# Altium footprint library FT-M6678DSK_28nm_0920.PcbLib: 78 footprints (part 5 of 6)
Each footprint in its own frame and in the unit in brackets; x right, y up, seen from the top. Pads: shape width x height; smd on the part's side, far side on the other; paste and mask are expansions set on the pad; w line width, h text height; cw(c..) or ccw(c..) is an arc to the next point about the centre after c.
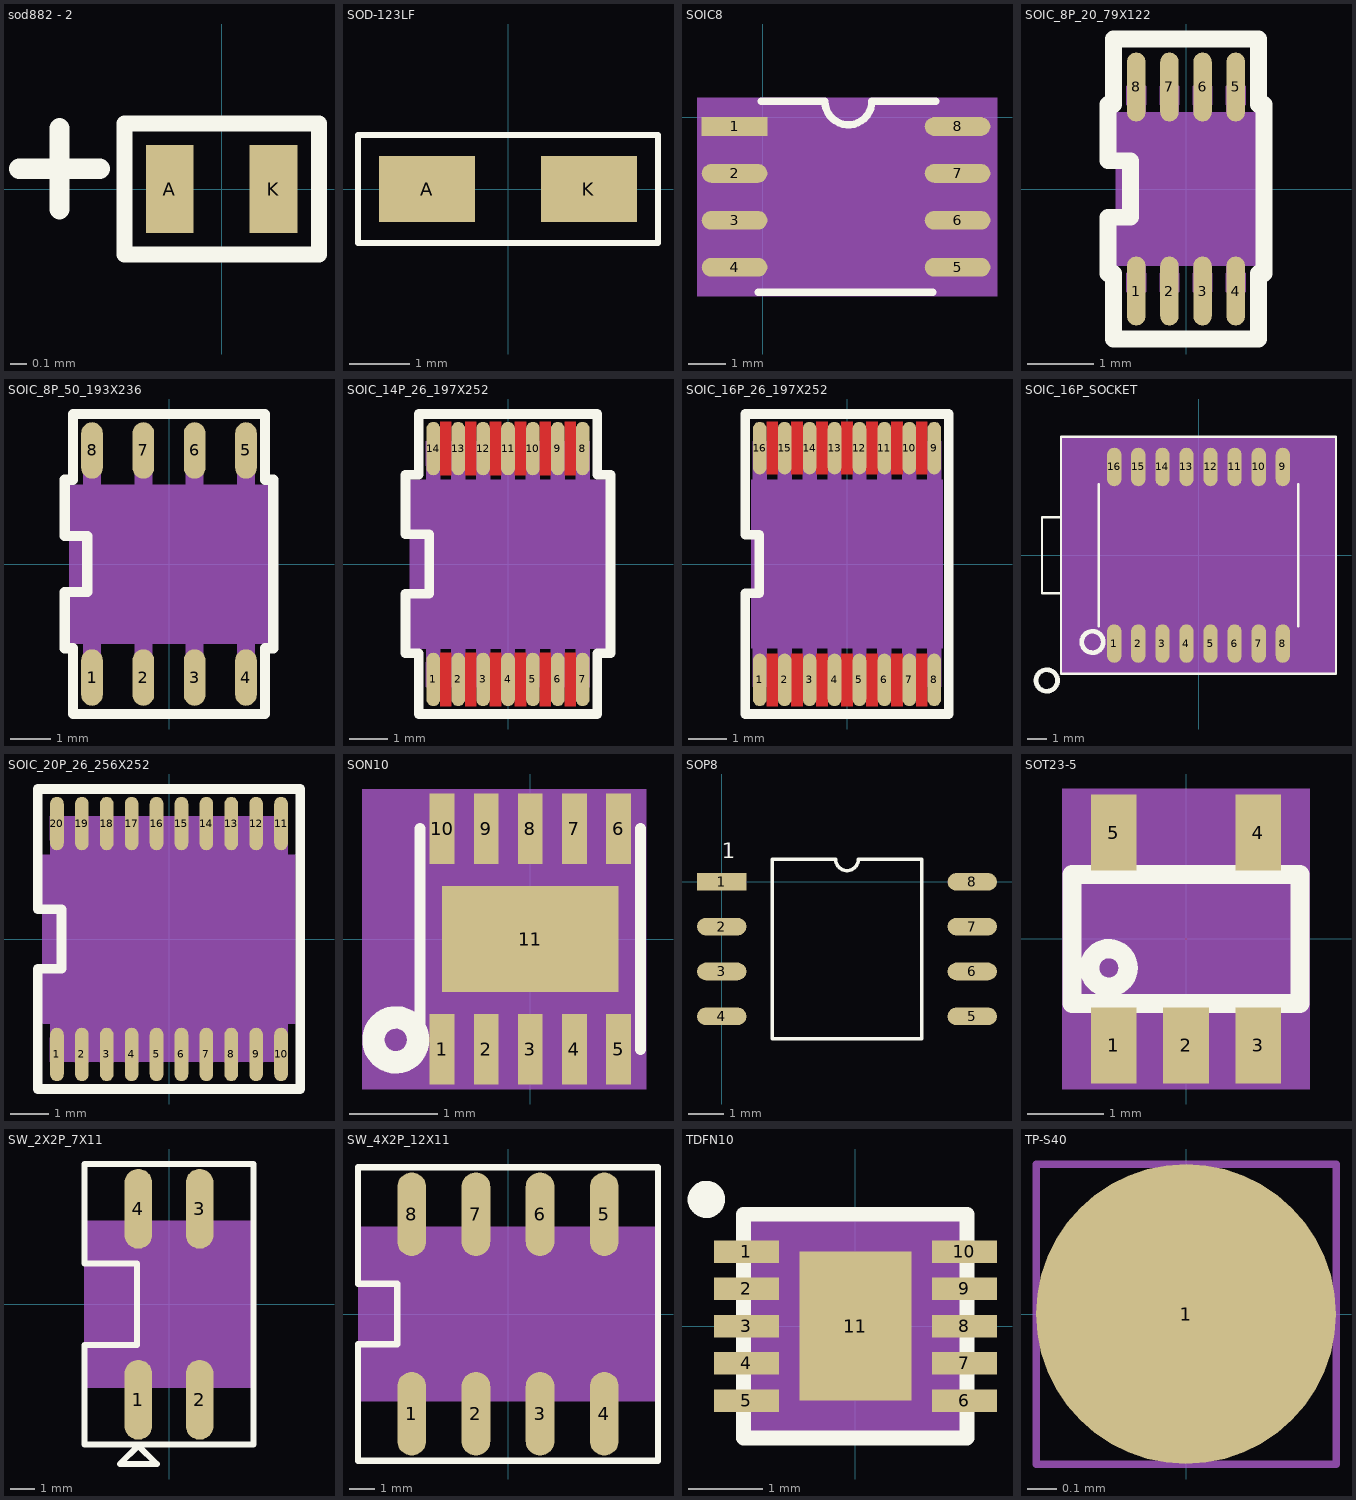
[diagram p4: the footprints below, top view; thin cyan lines are the x and y axes]

## sod882 - 2 [mm]
pads (2):
  rect 0.3x0.55 smd: A(-0.325,0) K(0.325,0)
Top Overlay:
  lines w0.1: -0.61,-0.41 0.61,-0.41 0.61,0.41 -0.61,0.41 -0.61,0 -0.61,-0.41
  lines w0.127: -1.27,0.127 -0.762,0.127 ; -1.016,-0.127 -1.016,0.381

## SOD-123LF [mm]
pads (2):
  rect 1.6x1.1 smd: A(-1.35,0) K(1.35,0)
Top Overlay:
  lines w0.1: -2.5,-0.9 -2.5,0 -2.5,0.9 2.5,0.9 2.5,-0.9 -2.5,-0.9

## SOIC8 [mil] "SOIC8"
pads (8):
  rect 70x20 smd: 1(-30,-10)
  oval 70x20 smd: 2(-30,-60) 3(-30,-110) 4(-30,-160) 5(207.6,-160) 6(207.6,-110) 7(207.6,-60) 8(207.6,-10)
Top Overlay:
  lines w7.87: -4.56,-186.73 181.26,-186.73 ; -1.61,16.81 66.3,16.81 ccw(c91.3,16.81) 116.3,16.81 184.22,16.81
Mechanical 11:
  text "5" at 212.32,-160 h11.81
  text "8" at 212.32,-10 h11.81
  text "7" at 212.32,-60 h11.81
  text "2" at -25.28,-60 h11.81
  text "1" at -25.28,-10 h11.81
  text "6" at 212.32,-110 h11.81
  text "4" at -25.28,-160 h11.81
  text "3" at -25.28,-110 h11.81
Mechanical 15:
  region: -70,-190.67 249.61,-190.67 249.61,20.75 -70,20.75
3D body: height 150, standoff 0, extent -70,-190.67 249.61,20

## SOIC_8P_20_79X122 [mil] "SOIC_8P_20_79X122"
pads (8):
  oval 11x41 smd: 1(-29.53,-60.61) 2(-9.84,-60.61) 3(9.84,-60.61) 4(29.53,-60.61) 5(29.53,60.61) 6(9.84,60.61) 7(-9.84,60.61) 8(-29.53,60.61)
Top Overlay:
  lines w10: -46.34,-50.28 -46.34,-16.76 -32.93,-16.76 -32.93,16.76 -46.34,16.76 -46.34,50.28 -43.03,50.28 -43.03,89.11 43.03,89.11 43.03,50.28 46.34,50.28 46.34,-50.28 43.03,-50.28 43.03,-89.11 -43.03,-89.11 -43.03,-50.28 -46.34,-50.28
Mechanical 11:
  text "2" at -9.84,-55.89 h11.81
  text "1" at -29.53,-55.89 h11.81
  text "4" at 29.53,-55.89 h11.81
  text "8" at -29.53,65.33 h11.81
  text "7" at -9.84,65.33 h11.81
  text "3" at 9.84,-55.89 h11.81
  text "6" at 9.84,65.33 h11.81
  text "5" at 29.53,65.33 h11.81
Mechanical 12:
  lines w1: -41.34,-45.28 -41.34,45.28 41.34,45.28 41.34,-45.28 -41.34,-45.28 ; -35.04,-61.03 -35.04,-50.03 -24.02,-50.03 -24.02,-61.03 -35.04,-61.03 ; -35.04,50.03 -35.04,61.03 -24.02,61.03 -24.02,50.03 -35.04,50.03 ; -15.35,-61.03 -15.35,-50.03 -4.33,-50.03 -4.33,-61.03 -15.35,-61.03 ; -15.35,50.03 -15.35,61.03 -4.33,61.03 -4.33,50.03 -15.35,50.03 ; 4.33,-61.03 4.33,-50.03 15.35,-50.03 15.35,-61.03 4.33,-61.03 ; 4.33,50.03 4.33,61.03 15.35,61.03 15.35,50.03 4.33,50.03 ; 24.02,-61.03 24.02,-50.03 35.04,-50.03 35.04,-61.03 24.02,-61.03 ; 24.02,50.03 24.02,61.03 35.04,61.03 35.04,50.03 24.02,50.03
Mechanical 15:
  region: -35.04,-61.03 -35.04,-45.28 -41.34,-45.28 -41.34,45.28 -35.04,45.28 -35.04,61.03 -24.02,61.03 -24.02,45.28 -15.35,45.28 -15.35,61.03 -4.33,61.03 -4.33,45.28 4.33,45.28 4.33,61.03 15.35,61.03 15.35,45.28 24.02,45.28 24.02,61.03 35.04,61.03 35.04,45.28 41.34,45.28 41.34,-45.28 35.04,-45.28 35.04,-61.03 24.02,-61.03 24.02,-45.28 15.35,-45.28 15.35,-61.03 4.33,-61.03 4.33,-45.28 -4.33,-45.28 -4.33,-61.03 -15.35,-61.03 -15.35,-45.28 -24.02,-45.28 -24.02,-61.03
3D body: height 150, standoff 0, extent -41.34,-61.03 41.34,61.03

## SOIC_8P_50_193X236 [mil] "SOIC_8P_50_193X236"
pads (8):
  oval 21x55 smd: 1(-75,-110.61) 2(-25,-110.61) 3(25,-110.61) 4(75,-110.61) 5(75,110.61) 6(25,110.61) 7(-25,110.61) 8(-75,110.61)
Top Overlay:
  lines w10: -101.5,-82 -93.5,-82 -93.5,-146.11 93.5,-146.11 93.5,-82 101.5,-82 101.5,82 93.5,82 93.5,146.11 -93.5,146.11 -93.5,82 -101.5,82 -101.5,27.33 -79.63,27.33 -79.63,-27.33 -101.5,-27.33 -101.5,-82
Mechanical 11:
  text "6" at 25,115.33 h11.81
  text "5" at 75,115.33 h11.81
  text "4" at 75,-105.89 h11.81
  text "2" at -25,-105.89 h11.81
  text "1" at -75,-105.89 h11.81
  text "8" at -75,115.33 h11.81
  text "7" at -25,115.33 h11.81
  text "3" at 25,-105.89 h11.81
Mechanical 12:
  lines w1: -96.5,-77 96.5,-77 96.5,77 -96.5,77 -96.5,-77 ; -83.46,-118.04 -66.53,-118.04 -66.53,-93.04 -83.46,-93.04 -83.46,-118.04 ; -83.46,93.03 -66.53,93.03 -66.53,118.03 -83.46,118.03 -83.46,93.03 ; -33.46,-118.04 -16.53,-118.04 -16.53,-93.04 -33.46,-93.04 -33.46,-118.04 ; -33.46,93.03 -16.53,93.03 -16.53,118.03 -33.46,118.03 -33.46,93.03 ; 16.54,-118.04 33.47,-118.04 33.47,-93.04 16.54,-93.04 16.54,-118.04 ; 16.54,93.03 33.47,93.03 33.47,118.03 16.54,118.03 16.54,93.03 ; 66.54,-118.04 83.47,-118.04 83.47,-93.04 66.54,-93.04 66.54,-118.04 ; 66.54,93.03 83.47,93.03 83.47,118.03 66.54,118.03 66.54,93.03
Mechanical 15:
  region: -83.46,-118.04 -83.46,-77 -96.5,-77 -96.5,77 -83.46,77 -83.46,118.03 -66.53,118.03 -66.53,77 -33.46,77 -33.46,118.03 -16.53,118.03 -16.53,77 16.54,77 16.54,118.03 33.47,118.03 33.47,77 66.54,77 66.54,118.03 83.47,118.03 83.47,77 96.5,77 96.5,-77 83.47,-77 83.47,-118.04 66.54,-118.04 66.54,-77 33.47,-77 33.47,-118.04 16.54,-118.04 16.54,-77 -16.53,-77 -16.53,-118.04 -33.46,-118.04 -33.46,-77 -66.53,-77 -66.53,-118.04
3D body: height 150, standoff 0, extent -96.5,-118.04 96.5,118.03

## SOIC_14P_26_197X252 [mil] "SOIC_14P_26_197X252"
pads (14):
  oval 14x55 smd: 1(-76.77,-118.68) 2(-51.18,-118.68) 3(-25.59,-118.68) 4(0,-118.68) 5(25.59,-118.68) 6(51.18,-118.68) 7(76.77,-118.68) 8(76.77,118.68) 9(51.18,118.68) 10(25.59,118.68) 11(0,118.68) 12(-25.59,118.68) 13(-51.18,118.68) 14(-76.77,118.68)
Top Layer:
  region: 63.97,91.18 69.77,91.18 69.77,146.18 63.97,146.18
  region: 58.18,91.18 63.98,91.18 63.98,146.18 58.18,146.18
  region: 38.38,91.18 44.18,91.18 44.18,146.18 38.38,146.18
  region: 32.59,91.18 38.38,91.18 38.38,146.18 32.59,146.18
  region: 12.8,91.18 18.59,91.18 18.59,146.18 12.8,146.18
  region: 7,91.18 12.8,91.18 12.8,146.18 7,146.18
  region: -12.8,91.18 -7,91.18 -7,146.18 -12.8,146.18
  region: -18.59,91.18 -12.8,91.18 -12.8,146.18 -18.59,146.18
  region: -38.38,91.18 -32.59,91.18 -32.59,146.18 -38.38,146.18
  region: -44.18,91.18 -38.38,91.18 -38.38,146.18 -44.18,146.18
  region: -63.98,91.18 -58.18,91.18 -58.18,146.18 -63.98,146.18
  region: -69.77,91.18 -63.97,91.18 -63.97,146.18 -69.77,146.18
  region: 63.97,-146.18 69.77,-146.18 69.77,-91.18 63.97,-91.18
  region: 58.18,-146.18 63.98,-146.18 63.98,-91.18 58.18,-91.18
  region: 38.38,-146.18 44.18,-146.18 44.18,-91.18 38.38,-91.18
  region: 32.59,-146.18 38.38,-146.18 38.38,-91.18 32.59,-91.18
  region: 12.8,-146.18 18.59,-146.18 18.59,-91.18 12.8,-91.18
  region: 7,-146.18 12.8,-146.18 12.8,-91.18 7,-91.18
  region: -12.8,-146.18 -7,-146.18 -7,-91.18 -12.8,-91.18
  region: -18.59,-146.18 -12.8,-146.18 -12.8,-91.18 -18.59,-91.18
  region: -38.38,-146.18 -32.59,-146.18 -32.59,-91.18 -38.38,-91.18
  region: -44.18,-146.18 -38.38,-146.18 -38.38,-91.18 -44.18,-91.18
  region: -63.98,-146.18 -58.18,-146.18 -58.18,-91.18 -63.98,-91.18
  region: -69.77,-146.18 -63.97,-146.18 -63.97,-91.18 -69.77,-91.18
Top Overlay:
  lines w10: -105.39,-91.61 -105.39,-30.54 -80.96,-30.54 -80.96,30.54 -105.39,30.54 -105.39,91.61 -91.77,91.61 -91.77,154.18 91.77,154.18 91.77,91.61 105.39,91.61 105.39,-91.61 91.77,-91.61 91.77,-154.18 -91.77,-154.18 -91.77,-91.61 -105.39,-91.61
Mechanical 11:
  text "2" at -46.46,-118.68 h11.81
  text "3" at -20.87,-118.68 h11.81
  text "11" at 9.45,118.68 h11.81
  text "13" at -41.73,118.68 h11.81
  text "14" at -67.32,118.68 h11.81
  text "8" at 81.49,118.68 h11.81
  text "6" at 55.9,-118.68 h11.81
  text "4" at 4.72,-118.68 h11.81
  text "1" at -72.05,-118.68 h11.81
  text "7" at 81.49,-118.68 h11.81
  text "10" at 35.04,118.68 h11.81
  text "12" at -16.14,118.68 h11.81
  text "5" at 30.31,-118.68 h11.81
  text "9" at 55.9,118.68 h11.81
Mechanical 12:
  lines w1: -100.39,-86.61 -100.39,86.61 100.39,86.61 100.39,-86.61 -100.39,-86.61 ; -83.86,-126.1 -83.86,-101.1 -69.69,-101.1 -69.69,-126.1 -83.86,-126.1 ; -83.86,101.1 -83.86,126.1 -69.69,126.1 -69.69,101.1 -83.86,101.1 ; -58.27,-126.1 -58.27,-101.1 -44.09,-101.1 -44.09,-126.1 -58.27,-126.1 ; -58.27,101.1 -58.27,126.1 -44.09,126.1 -44.09,101.1 -58.27,101.1 ; -32.68,-126.1 -32.68,-101.1 -18.5,-101.1 -18.5,-126.1 -32.68,-126.1 ; -32.68,101.1 -32.68,126.1 -18.5,126.1 -18.5,101.1 -32.68,101.1 ; -7.09,-126.1 -7.09,-101.1 7.09,-101.1 7.09,-126.1 -7.09,-126.1 ; -7.09,101.1 -7.09,126.1 7.09,126.1 7.09,101.1 -7.09,101.1 ; 18.5,-126.1 18.5,-101.1 32.68,-101.1 32.68,-126.1 18.5,-126.1 ; 18.5,101.1 18.5,126.1 32.68,126.1 32.68,101.1 18.5,101.1 ; 44.09,-126.1 44.09,-101.1 58.27,-101.1 58.27,-126.1 44.09,-126.1 ; 44.09,101.1 44.09,126.1 58.27,126.1 58.27,101.1 44.09,101.1 ; 69.69,-126.1 69.69,-101.1 83.86,-101.1 83.86,-126.1 69.69,-126.1 ; 69.69,101.1 69.69,126.1 83.86,126.1 83.86,101.1 69.69,101.1
Mechanical 15:
  region: -83.86,-126.1 -83.86,-86.61 -100.39,-86.61 -100.39,86.61 -83.86,86.61 -83.86,126.1 -69.69,126.1 -69.69,86.61 -58.27,86.61 -58.27,126.1 -44.09,126.1 -44.09,86.61 -32.68,86.61 -32.68,126.1 -18.5,126.1 -18.5,86.61 -7.09,86.61 -7.09,126.1 7.09,126.1 7.09,86.61 18.5,86.61 18.5,126.1 32.68,126.1 32.68,86.61 44.09,86.61 44.09,126.1 58.27,126.1 58.27,86.61 69.69,86.61 69.69,126.1 83.86,126.1 83.86,86.61 100.39,86.61 100.39,-86.61 83.86,-86.61 83.86,-126.1 69.69,-126.1 69.69,-86.61 58.27,-86.61 58.27,-126.1 44.09,-126.1 44.09,-86.61 32.68,-86.61 32.68,-126.1 18.5,-126.1 18.5,-86.61 7.09,-86.61 7.09,-126.1 -7.09,-126.1 -7.09,-86.61 -18.5,-86.61 -18.5,-126.1 -32.68,-126.1 -32.68,-86.61 -44.09,-86.61 -44.09,-126.1 -58.27,-126.1 -58.27,-86.61 -69.69,-86.61 -69.69,-126.1
3D body: height 150, standoff 0, extent -100.39,-126.1 100.39,126.1

## SOIC_16P_26_197X252 [mil] "SOIC_16P_26_197X252"
pads (16):
  oval 14x54 smd: 1(-89.57,-118.98) 2(-63.98,-118.98) 3(-38.39,-118.98) 4(-12.8,-118.98) 5(12.8,-118.98) 6(38.39,-118.98) 7(63.98,-118.98) 8(89.57,-118.98) 9(89.57,118.98) 10(63.98,118.98) 11(38.39,118.98) 12(12.8,118.98) 13(-12.8,118.98) 14(-38.39,118.98) 15(-63.98,118.98) 16(-89.57,118.98)
Top Layer:
  region: -82.57,-145.98 -76.77,-145.98 -76.77,-91.98 -82.57,-91.98
  region: -76.77,-145.98 -70.98,-145.98 -70.98,-91.98 -76.77,-91.98
  region: -56.98,-145.98 -51.18,-145.98 -51.18,-91.98 -56.98,-91.98
  region: -51.18,-145.98 -45.39,-145.98 -45.39,-91.98 -51.18,-91.98
  region: -31.39,-145.98 -25.59,-145.98 -25.59,-91.98 -31.39,-91.98
  region: -25.59,-145.98 -19.79,-145.98 -19.79,-91.98 -25.59,-91.98
  region: -5.79,-145.98 -0.01,-145.98 -0.01,-91.98 -5.79,-91.98
  region: 0.02,-145.98 5.8,-145.98 5.8,-91.98 0.02,-91.98
  region: 19.8,-145.98 25.6,-145.98 25.6,-91.98 19.8,-91.98
  region: 25.6,-145.98 31.39,-145.98 31.39,-91.98 25.6,-91.98
  region: 45.39,-145.98 51.19,-145.98 51.19,-91.98 45.39,-91.98
  region: 51.19,-145.98 56.98,-145.98 56.98,-91.98 51.19,-91.98
  region: 70.98,-145.98 76.78,-145.98 76.78,-91.98 70.98,-91.98
  region: 76.78,-145.98 82.58,-145.98 82.58,-91.98 76.78,-91.98
  region: -82.57,91.98 -76.77,91.98 -76.77,145.98 -82.57,145.98
  region: -76.77,91.98 -70.98,91.98 -70.98,145.98 -76.77,145.98
  region: -56.98,91.98 -51.18,91.98 -51.18,145.98 -56.98,145.98
  region: -51.18,91.98 -45.39,91.98 -45.39,145.98 -51.18,145.98
  region: -31.39,91.98 -25.59,91.98 -25.59,145.98 -31.39,145.98
  region: -25.59,91.98 -19.79,91.98 -19.79,145.98 -25.59,145.98
  region: -5.79,91.98 -0.01,91.98 -0.01,145.98 -5.79,145.98
  region: 0.02,91.98 5.8,91.98 5.8,145.98 0.02,145.98
  region: 19.8,91.98 25.6,91.98 25.6,145.98 19.8,145.98
  region: 25.6,91.98 31.39,91.98 31.39,145.98 25.6,145.98
  region: 45.39,91.98 51.19,91.98 51.19,145.98 45.39,145.98
  region: 51.19,91.98 56.98,91.98 56.98,145.98 51.19,145.98
  region: 70.98,91.98 76.78,91.98 76.78,145.98 70.98,145.98
  region: 76.78,91.98 82.58,91.98 82.58,145.98 76.78,145.98
Top Overlay:
  lines w10: -104.57,-153.98 -94.57,-153.98 104.58,-153.98 104.58,-143.98 104.58,153.98 94.58,153.98 -104.57,153.98 -104.57,30 -90,30 -90,-30 -104.57,-30 -104.57,-153.98
Mechanical 11:
  text "7" at 68.7,-118.98 h11.81
  text "4" at -8.07,-118.98 h11.81
  text "6" at 43.11,-118.98 h11.81
  text "5" at 17.52,-118.98 h11.81
  text "10" at 73.43,118.98 h11.81
  text "13" at -3.34,118.98 h11.81
  text "9" at 94.3,118.98 h11.81
  text "14" at -28.94,118.98 h11.81
  text "15" at -54.53,118.98 h11.81
  text "2" at -59.26,-118.98 h11.81
  text "8" at 94.3,-118.98 h11.81
  text "11" at 47.84,118.98 h11.81
  text "12" at 22.25,118.98 h11.81
  text "16" at -80.12,118.98 h11.81
  text "3" at -33.67,-118.98 h11.81
  text "1" at -84.85,-118.98 h11.81
Mechanical 15:
  region: -96.64,-125.91 -96.64,-86.61 -98.42,-86.61 -98.42,86.61 -96.64,86.61 -96.64,125.91 -82.48,125.91 -82.48,86.61 -71.05,86.61 -71.05,125.91 -56.89,125.91 -56.89,86.61 -45.46,86.61 -45.46,125.91 -31.29,125.91 -31.29,86.61 -19.88,86.61 -19.88,125.91 -5.7,125.91 -5.7,86.61 5.71,86.61 5.71,125.91 19.89,125.91 19.89,86.61 31.3,86.61 31.3,125.91 45.47,125.91 45.47,86.61 56.89,86.61 56.89,125.91 71.06,125.91 71.06,86.61 82.48,86.61 82.48,125.91 96.65,125.91 96.65,86.61 98.43,86.61 98.43,-86.61 96.65,-86.61 96.65,-125.91 82.48,-125.91 82.48,-86.61 71.06,-86.61 71.06,-125.91 56.89,-125.91 56.89,-86.61 45.47,-86.61 45.47,-125.91 31.3,-125.91 31.3,-86.61 19.89,-86.61 19.89,-125.91 5.71,-125.91 5.71,-86.61 -5.7,-86.61 -5.7,-125.91 -19.88,-125.91 -19.88,-86.61 -31.29,-86.61 -31.29,-125.91 -45.46,-125.91 -45.46,-86.61 -56.89,-86.61 -56.89,-125.91 -71.05,-125.91 -71.05,-86.61 -82.48,-86.61 -82.48,-125.91
3D body: height 150, standoff 0, extent -98.42,-125.91 98.43,125.91

## SOIC_16P_SOCKET [mil] "SOIC_16P_SOCKET"
pads (16):
  oval 29.53x80 smd: 1(-175,-183.25) 2(-125,-183.25) 3(-75,-183.25) 4(-25,-183.25) 5(25,-183.25) 6(75,-183.25) 7(125,-183.25) 8(175,-183.25) 9(175,183.25) 10(125,183.25) 11(75,183.25) 12(25,183.25) 13(-25,183.25) 14(-75,183.25) 15(-125,183.25) 16(-175,183.25)
Top Overlay:
  circle w10: c-220,-180 r22.36
  circle w10: c-315,-260 r22.36
  lines w5: -285.44,-78.74 -324.81,-78.74 -324.81,78.74 -285.44,78.74 ; -206.7,-147.64 -206.7,147.64 ; 206.69,-147.64 206.69,147.64 ; -285.44,-246.07 285.43,-246.07 285.43,246.06 -285.44,246.06 -285.44,-246.07
Mechanical 11:
  text "14" at -75,173.8 h11.81
  text "8" at 175,-187.97 h11.81
  text "7" at 125,-187.97 h11.81
  text "1" at -175,-187.97 h11.81
  text "16" at -175,173.8 h11.81
  text "10" at 125,173.8 h11.81
  text "9" at 175,178.53 h11.81
  text "15" at -125,173.8 h11.81
  text "2" at -125,-187.97 h11.81
  text "13" at -25,173.8 h11.81
  text "12" at 25,173.8 h11.81
  text "11" at 75,173.8 h11.81
  text "6" at 75,-187.97 h11.81
  text "5" at 25,-187.97 h11.81
  text "4" at -25,-187.97 h11.81
  text "3" at -75,-187.97 h11.81
Mechanical 12:
  lines w1: -183.46,-203.17 -166.54,-203.17 -166.54,-153.17 -183.46,-153.17 -183.46,-203.17 ; -183.46,153.17 -166.54,153.17 -166.54,203.17 -183.46,203.17 -183.46,153.17 ; -133.46,-203.17 -116.54,-203.17 -116.54,-153.17 -133.46,-153.17 -133.46,-203.17 ; -133.46,153.17 -116.54,153.17 -116.54,203.17 -133.46,203.17 -133.46,153.17 ; -83.46,-203.17 -66.54,-203.17 -66.54,-153.17 -83.46,-153.17 -83.46,-203.17 ; -83.46,153.17 -66.54,153.17 -66.54,203.17 -83.46,203.17 -83.46,153.17 ; -33.46,-203.17 -16.54,-203.17 -16.54,-153.17 -33.46,-153.17 -33.46,-203.17 ; -33.46,153.17 -16.54,153.17 -16.54,203.17 -33.46,203.17 -33.46,153.17 ; 16.54,-203.17 33.46,-203.17 33.46,-153.17 16.54,-153.17 16.54,-203.17 ; 16.54,153.17 33.46,153.17 33.46,203.17 16.54,203.17 16.54,153.17 ; 66.54,-203.17 83.46,-203.17 83.46,-153.17 66.54,-153.17 66.54,-203.17 ; 66.54,153.17 83.46,153.17 83.46,203.17 66.54,203.17 66.54,153.17 ; 116.54,-203.17 133.46,-203.17 133.46,-153.17 116.54,-153.17 116.54,-203.17 ; 116.54,153.17 133.46,153.17 133.46,203.17 116.54,203.17 116.54,153.17 ; 166.54,-203.17 183.46,-203.17 183.46,-153.17 166.54,-153.17 166.54,-203.17 ; 166.54,153.17 183.46,153.17 183.46,203.17 166.54,203.17 166.54,153.17
Mechanical 15:
  region: -285.44,-246.07 285.43,-246.07 285.43,246.06 -285.44,246.06
3D body: height 150, standoff 0, extent -285.44,-246.07 285.43,246.06

## SOIC_20P_26_256X252 [mil] "SOIC_20P_26_256X252"
pads (20):
  oval 14x55 smd: 1(-115.16,-118.68) 2(-89.57,-118.68) 3(-63.98,-118.68) 4(-38.39,-118.68) 5(-12.8,-118.68) 6(12.8,-118.68) 7(38.39,-118.68) 8(63.98,-118.68) 9(89.57,-118.68) 10(115.16,-118.68) 11(115.16,118.68) 12(89.57,118.68) 13(63.98,118.68) 14(38.39,118.68) 15(12.8,118.68) 16(-12.8,118.68) 17(-38.39,118.68) 18(-63.98,118.68) 19(-89.57,118.68) 20(-115.16,118.68)
Top Overlay:
  lines w10: -134.92,-154.18 134.92,-154.18 ; -134.92,-154.17 -134.92,-30.54 -110.49,-30.54 -110.49,30.54 -134.92,30.54 -134.92,154.17 ; -134.92,154.18 134.92,154.18 ; 134.92,-154.17 134.92,154.17
Mechanical 11:
  text "8" at 68.7,-118.68 h11.81
  text "13" at 73.43,118.68 h11.81
  text "4" at -33.67,-118.68 h11.81
  text "3" at -59.26,-118.68 h11.81
  text "5" at -8.08,-118.68 h11.81
  text "15" at 22.25,118.68 h11.81
  text "10" at 124.61,-118.68 h11.81
  text "16" at -3.35,118.68 h11.81
  text "1" at -110.44,-118.68 h11.81
  text "17" at -28.94,118.68 h11.81
  text "6" at 17.52,-118.68 h11.81
  text "20" at -105.71,118.68 h11.81
  text "18" at -54.53,118.68 h11.81
  text "11" at 124.61,118.68 h11.81
  text "2" at -84.85,-118.68 h11.81
  text "19" at -80.12,118.68 h11.81
  text "12" at 99.02,118.68 h11.81
  text "14" at 47.84,118.68 h11.81
  text "9" at 94.29,-118.68 h11.81
  text "7" at 43.11,-118.68 h11.81
Mechanical 12:
  lines w1: -129.92,-86.61 129.92,-86.61 129.92,86.61 -129.92,86.61 -129.92,-86.61 ; -122.24,-126.1 -108.07,-126.1 -108.07,-101.5 -122.24,-101.5 -122.24,-126.1 ; -122.24,101.5 -108.07,101.5 -108.07,126.1 -122.24,126.1 -122.24,101.5 ; -96.65,-126.1 -82.48,-126.1 -82.48,-101.5 -96.65,-101.5 -96.65,-126.1 ; -96.65,101.5 -82.48,101.5 -82.48,126.1 -96.65,126.1 -96.65,101.5 ; -71.06,-126.1 -56.89,-126.1 -56.89,-101.5 -71.06,-101.5 -71.06,-126.1 ; -71.06,101.5 -56.89,101.5 -56.89,126.1 -71.06,126.1 -71.06,101.5 ; -45.47,-126.1 -31.3,-126.1 -31.3,-101.5 -45.47,-101.5 -45.47,-126.1 ; -45.47,101.5 -31.3,101.5 -31.3,126.1 -45.47,126.1 -45.47,101.5 ; -19.88,-126.1 -5.71,-126.1 -5.71,-101.5 -19.88,-101.5 -19.88,-126.1 ; -19.88,101.5 -5.71,101.5 -5.71,126.1 -19.88,126.1 -19.88,101.5 ; 5.71,-126.1 19.88,-126.1 19.88,-101.5 5.71,-101.5 5.71,-126.1 ; 5.71,101.5 19.88,101.5 19.88,126.1 5.71,126.1 5.71,101.5 ; 31.3,-126.1 45.47,-126.1 45.47,-101.5 31.3,-101.5 31.3,-126.1 ; 31.3,101.5 45.47,101.5 45.47,126.1 31.3,126.1 31.3,101.5 ; 56.89,-126.1 71.06,-126.1 71.06,-101.5 56.89,-101.5 56.89,-126.1 ; 56.89,101.5 71.06,101.5 71.06,126.1 56.89,126.1 56.89,101.5 ; 82.48,-126.1 96.65,-126.1 96.65,-101.5 82.48,-101.5 82.48,-126.1 ; 82.48,101.5 96.65,101.5 96.65,126.1 82.48,126.1 82.48,101.5 ; 108.07,-126.1 122.24,-126.1 122.24,-101.5 108.07,-101.5 108.07,-126.1 ; 108.07,101.5 122.24,101.5 122.24,126.1 108.07,126.1 108.07,101.5
Mechanical 15:
  region: -122.24,-126.1 -122.24,-86.61 -129.92,-86.61 -129.92,86.61 -122.24,86.61 -122.24,126.1 122.24,126.1 122.24,86.61 129.92,86.61 129.92,-86.61 122.24,-86.61 122.24,-126.1
3D body: height 150, standoff 0, extent -129.92,-126.1 129.92,126.1

## SON10 [mil] "SON10"
pads (11):
  rect 11.02x31.5 smd: 1(-39.37,-49.21) 2(-19.69,-49.21) 3(0,-49.21) 4(19.69,-49.21) 5(39.37,-49.21) 6(39.37,49.21) 7(19.69,49.21) 8(0,49.21) 9(-19.69,49.21) 10(-39.37,49.21)
  rect 78.74x47.24 smd: 11(0,0)
Top Overlay:
  circle w10: c-60,-45 r10
  lines w5: -49.21,-49.21 -49.21,49.21 ; 49.21,-49.21 49.21,49.21
Mechanical 11:
  text "9" at -33.69,49.21 h35
  text "10" at -67.37,49.21 h35
  text "6" at 25.37,49.21 h35
  text "4" at 5.69,-49.21 h35
  text "11" at -27,-17.5 h35
  text "1" at -53.37,-49.21 h35
  text "2" at -33.69,-49.21 h35
  text "7" at 5.69,49.21 h35
  text "3" at -14,-49.21 h35
  text "8" at -14,49.21 h35
  text "5" at 25.37,-49.21 h35
Mechanical 15:
  region: -75,-66.93 51.71,-66.93 51.71,66.93 -75,66.93
3D body: height 150, standoff 0, extent -75,-66.93 51.71,66.93

## SOP8 [mm]
pads (8):
  rect 1.4x0.5 smd: 1(0,0)
  oval 1.4x0.5 smd: 2(0,-1.27) 3(0,-2.54) 4(0,-3.81) 5(7.1,-3.81) 6(7.1,-2.54) 7(7.1,-1.27) 8(7.1,0)
Top Overlay:
  lines w0.1: 1.435,-4.445 1.435,0.635 3.233,0.635 ccw(c3.55,0.635) 3.868,0.635 5.665,0.635 5.665,-4.445 1.435,-4.445
  text "1" at 0,0.508 h0.76

## SOT23-5 [mm] "SOT23-5"
pads (5):
  rect 0.6x1 smd: 1(-0.95,-1.4) 2(0,-1.4) 3(0.95,-1.4) 4(0.95,1.4) 5(-0.95,1.4)
Top Overlay:
  circle w0.254: c-1.016,-0.381 r0.254
  lines w0.254: -1.5,-0.85 -1.5,0.85 1.5,0.85 1.5,-0.85 -1.5,-0.85
Mechanical 11:
  text "1" at -0.583,-1.648 h0.3
  text "3" at 1.195,-1.648 h0.3
  text "5" at -0.71,1.146 h0.3
  text "4" at 1.195,1.146 h0.3
  text "2" at 0.306,-1.648 h0.3
Mechanical 15:
  region: -1.627,-1.975 1.627,-1.975 1.627,1.975 -1.627,1.975
3D body: height 3.81, standoff 0, extent -1.627,-1.975 1.627,1.975

## SW_2X2P_7X11 [mil] "SW_2X2P_7X11"
pads (4):
  oval 45x130 smd: 1(-50,-155.51) 2(50,-155.51) 3(50,155.51) 4(-50,155.51)
Top Overlay:
  lines w10: -137.8,-228.52 -137.8,-66.28 -52.1,-66.28 -52.1,66.27 -137.8,66.27 -137.8,228.51 137.8,228.51 137.8,-228.52 -137.8,-228.52 ; -80,-260 -20,-260 -50,-230 -80,-260
  text ".Designator" at 123,-260 h30
Mechanical 11:
  text "1" at -45.28,-155.52 h11.81
  text "2" at 54.72,-155.52 h11.81
  text "3" at 54.72,155.51 h11.81
  text "4" at -45.28,155.51 h11.81
Mechanical 15:
  region: -137.8,-135.83 137.8,-135.83 137.8,135.82 -137.8,135.82
3D body: height 150, standoff 0, extent -137.8,-135.83 137.8,135.82

## SW_4X2P_12X11 [mil] "SW_4X2P_12X11"
pads (8):
  oval 45x130 smd: 1(-150,-155.51) 2(-50,-155.51) 3(50,-155.51) 4(150,-155.51) 5(150,155.51) 6(50,155.51) 7(-50,155.51) 8(-150,155.51)
Top Overlay:
  lines w10: -233.74,-228.51 233.74,-228.51 233.74,-140.83 233.74,140.83 233.74,228.51 -233.74,228.51 -233.74,140.83 -233.74,46.94 -172.57,46.94 -172.57,-46.94 -233.74,-46.94 -233.74,-140.83 -233.74,-228.51
  text ".Designator" at 51,-260 h30
Mechanical 11:
  text "2" at -45.28,-155.51 h11.81
  text "4" at 154.72,-155.51 h11.81
  text "7" at -45.28,155.51 h11.81
  text "8" at -145.28,155.51 h11.81
  text "6" at 54.72,155.51 h11.81
  text "5" at 154.72,155.51 h11.81
  text "1" at -145.28,-155.51 h11.81
  text "3" at 54.72,-155.51 h11.81
Mechanical 15:
  region: -233.74,-135.83 233.74,-135.83 233.74,135.83 -233.74,135.83
3D body: height 150, standoff 0, extent -233.74,-135.83 233.74,135.83

## TDFN10 [mm] "TDFN10"
pads (11):
  rect 0.874x0.3 smd: 1(-1.463,1) 2(-1.463,0.5) 3(-1.463,0) 4(-1.463,-0.5) 5(-1.463,-1) 6(1.463,-1) 7(1.463,-0.5) 8(1.463,0) 9(1.463,0.5) 10(1.463,1)
  rect 1.5x2 smd: 11(0,0)
Top Overlay:
  circle w0.25: c-2,1.7 r0.125
  lines w0.2: -1.5,-1.5 -1.5,1.5 1.5,1.5 1.5,-1.5 -1.5,-1.5
Mechanical 11:
  text "4" at -1.463,-0.86 h0.4
  text "5" at -1.463,-1.36 h0.4
  text "11" at 0,-0.508 h0.64
  text "10" at 1.463,0.48 h0.4
  text "1" at -1.463,0.64 h0.4
  text "2" at -1.463,0.14 h0.4
  text "3" at -1.463,-0.36 h0.4
  text "9" at 1.463,0.14 h0.4
  text "8" at 1.463,-0.36 h0.4
  text "7" at 1.463,-0.86 h0.4
  text "6" at 1.463,-1.36 h0.4
Mechanical 15:
  region: 1.5,1.5 -1.5,1.5 -1.5,-1.5 1.5,-1.5
3D body: height 3.81, standoff 0, extent -1.5,-1.5 1.5,1.5

## TP-S40 [mil] "TP-S40"
pads (1):
  round 40 smd: 1(0,0)
Mechanical 11:
  text "1" at -4.72,0 h11.81
Mechanical 15:
  lines w1: -20,-20 20,-20 20,20 -20,20 -20,-20